# Altium integrated library Power.IntLib: 27 symbols
Pins are listed as number, name and electrical type; pins without a type are passive.

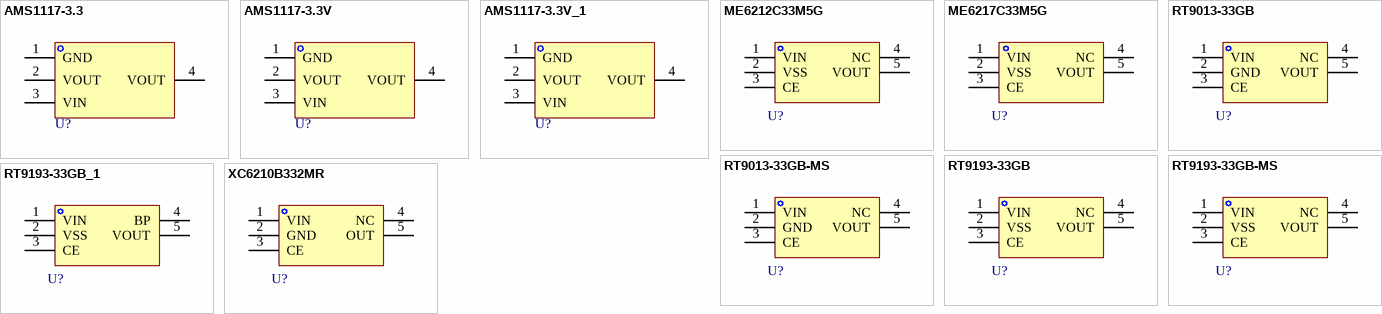
[diagram p0: symbols AMS1117-3.3 to XC6210B332MR]

## AMS1117-3.3
designator U?  (value not drawn)
AMS AMS1117 LDO SOT223封装 输出3.3V; 输出类型: 固定; 工作电压: 16V; 输出电压: 3.3V; 输出电流: 1A; 工作温度: -40℃~+125℃; 封装: SOT-223; 压差: 1.1V@(800mA); ComponentLink1Description: Datasheet; ComponentLink1URL: http://www.advanced-monolithic.com/pdf/ds1117.pdf; 制造商: AMS; 类别: LDO; 子类别: -
footprint AMS1117-SOT223 (SOT223, 4-Leads, Body 6.51x7.00mm (avg), Pitch 2.29mm, IPC Medium Density)
pins: 1 GND (power), 2 VOUT, 3 VIN (power), 4 VOUT

## AMS1117-3.3V
designator U?  (value not drawn)
JSMSEMI(杰盛微) AMS1117 LDO SOT223封装 输出3.3V; 输出类型: 固定; 工作电压: 15V; 输出电压: 3.3V; 输出电流: 1.2A; 工作温度: -40℃~+125℃; 封装: SOT-223; 压差: 1.5V@(800mA); ComponentLink1Description: Datasheet; ComponentLink1URL: http://www.advanced-monolithic.com/pdf/ds1117.pdf; 制造商: JSMSEMI(杰盛微); 类别: LDO; 子类别: -
footprint JSMSEMI-SOT223 (SOT223, 4-Leads, Body 6.30x6.95mm (avg), Pitch 2.30mm, IPC Medium Density)
pins: 1 GND (power), 2 VOUT, 3 VIN (power), 4 VOUT

## AMS1117-3.3V_1
designator U?, comment AMS1117-3.3V  (value not drawn)
MSKSEMI(美森科) AMS1117 LDO SOT223封装 输出3.3V; 输出类型: 固定; 工作电压: 12V; 输出电压: 3.3V; 输出电流: 1A; 工作温度: -40℃~+125℃; 封装: SOT-223; 压差: 1.4V@(1A); ComponentLink1Description: Datasheet; ComponentLink1URL: http://www.advanced-monolithic.com/pdf/ds1117.pdf; 制造商: MSKSEMI(美森科); 类别: LDO; 子类别: -
footprint MSKSEM-SOT223 (MSKSEMI(美森科) SOT223 推荐封装)
pins: 1 GND (power), 2 VOUT, 3 VIN (power), 4 VOUT

## ME6212C33M5G
designator U?  (value not drawn)
MICRONE(南京微盟) ME6212 LDO SOT235封装 输出3.3V; 输出类型: 固定; 工作电压: 6V; 输出电压: 3.3V; 输出电流: 350mA; 工作温度: -40℃~+150℃; 封装: SOT-23-5; 压差: 260mV@(200mA); 制造商: MICRONE(南京微盟); 类别: LDO; 子类别: -
footprint MICRONE-SOT235
pins: 1 VIN, 2 VSS, 3 CE, 4 NC, 5 VOUT

## ME6217C33M5G
designator U?  (value not drawn)
MICRONE(南京微盟) ME6217 LDO SOT235封装 输出3.3V; 输出类型: 固定; 工作电压: 7V; 输出电压: 3.3V; 输出电流: 800mA; 工作温度: -40℃~+85℃; 封装: SOT-23-5; 压差: 180mV@(300mA); 制造商: MICRONE(南京微盟); 类别: LDO; 子类别: -
footprint MICRONE-SOT235
pins: 1 VIN, 2 VSS, 3 CE, 4 NC, 5 VOUT

## RT9013-33GB
designator U?  (value not drawn)
TECH PUBLIC(台舟) RT9013-33GB LDO SOT235封装 输出3.3V; 输出类型: 固定; 工作电压: 7V; 输出电压: 3.3V; 输出电流: 500mA; 工作温度: -25℃~+85℃@(Ta); 封装: SOT-23-5; 压差: 300mV@(200mA); 制造商: TECH PUBLIC(台舟); 类别: LDO; 子类别: -
footprint TECHPUBLIC-SOT235 (SOT23, 5-Leads, Body 2.92x2.80mm, Pitch 0.95mm, IPC Medium Density)
pins: 1 VIN, 2 GND, 3 CE, 4 NC, 5 VOUT

## RT9013-33GB-MS
designator U?  (value not drawn)
MSKSEMI(美森科) 输出类型：固定 输出极性：正 最大输入电压：5.5V 输出电压：3.3V 输出电流：500mA 电源纹波抑制比(PSRR)：75dB@(1kHz)后面-MS代表品牌; 输出类型: 固定; 工作电压: 5.5V; 输出电压: 3.3V; 输出电流: 500mA; 工作温度: -25℃~+85℃@(Ta); 封装: SOT-23-5; 类别: LDO; 压差: 100mV@(100mA)；300mV@(200mA); 制造商: MSKSEMI(美森科); 子类别: -
footprint MSKSEMI-SOT-23-5 (MSKSEMI(美森科) SOT235 推荐fengzhuang)
pins: 1 VIN, 2 GND, 3 CE, 4 NC, 5 VOUT

## RT9193-33GB
designator U?  (value not drawn)
TECH PUBLIC(台舟) RT9193-33GB LDO SOT235封装 输出3.3V; 输出类型: 固定; 工作电压: 6V; 输出电压: 3.3V; 输出电流: 300mA; 工作温度: -25℃~+85℃@(Ta); 封装: SOT-23-5; 压差: 230mV@(200mA); 制造商: TECH PUBLIC(台舟); 类别: LDO; 子类别: -
footprint TECHPUBLIC-SOT235 (SOT23, 5-Leads, Body 2.92x2.80mm, Pitch 0.95mm, IPC Medium Density)
pins: 1 VIN, 2 VSS, 3 CE, 4 NC, 5 VOUT

## RT9193-33GB-MS
designator U?  (value not drawn)
MSKSEMI(美森科) RT9193-33GB LDO SOT235封装 输出3.3V; 输出类型: 固定; 工作电压: 5.5V; 输出电压: 3.3V; 输出电流: 500mA; 工作温度: -25℃~+85℃@(Ta); 封装: SOT-23-5; 压差: 300mV@(200mA); 制造商: MSKSEMI(美森科); 类别: LDO; 子类别: -
footprint MSKSEMI-SOT-23-5 (MSKSEMI(美森科) SOT235 推荐fengzhuang)
pins: 1 VIN, 2 VSS, 3 CE, 4 NC, 5 VOUT

## RT9193-33GB_1
designator U?, comment RT9193-33GB  (value not drawn)
RICHTEK(立锜) RT9193-33GB LDO SOT235封装 输出3.3V; 输出类型: 固定; 工作电压: 5.5V; 输出电压: 3.3V; 输出电流: 300mA; 工作温度: -40℃~+125℃@(Tj); 制造商: TECH PUBLIC(台舟); 封装: SOT-23-5; 压差: 230mV@(200mA); 类别: LDO; 子类别: -
footprint RICHTEK-SOT235 (RICHTEK(立锜) TSOT-25/TSOT-25(FC)/SOT-25 推荐焊盘)
pins: 1 VIN, 2 VSS, 3 CE, 4 BP "Reference Noise Bypass. This pin can be floating. For lowest noise performance, connect a 22nF capacitor between the BP and GND pins", 5 VOUT

## XC6210B332MR
designator U?  (value not drawn)
TECH PUBLIC(台舟) XC6210B332MR LDO SOT235封装 输出3.3V; 输出类型: 固定; 工作电压: 5.5V; 输出电压: 3.3V; 输出电流: 800mA; 工作温度: -25℃~+85℃@(Ta); 封装: SOT-23-5; 压差: 150mV@(300mA); 制造商: TECH PUBLIC(台舟); 类别: LDO; 子类别: -
footprint TECHPUBLIC-SOT235 (SOT23, 5-Leads, Body 2.92x2.80mm, Pitch 0.95mm, IPC Medium Density)
pins: 1 VIN, 2 GND, 3 CE, 4 NC, 5 OUT


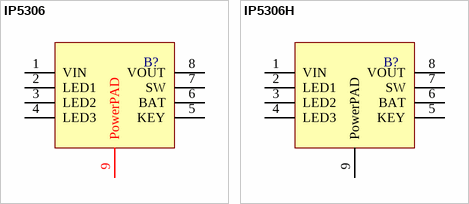
[diagram p1: symbols IP5306 to IP5306H]

## IP5306
designator B?  (value not drawn)
INJOINIC(英集芯) 全集成移动电源系统芯片; 封装: ESOP-8; 类别: 电源管理; 输入电流: 2.1A; 输出电流: 2.4A; 工作电压: 4.65V-5.5V; 工作温度: 0℃-+70℃; 电池数量: 1; 输出电压: 5V; 制造商: INJOINIC(英集芯); 子类别: *; ComponentLink1Description: 数据手册; ComponentLink1URL: https://www.injoinic.com/api//static/uploads/20250528/20250528180813_6836e08d3eb50.pdf
footprint INJOINIC-ESOP-8 (SOP, 8-Leads, Body 4.90x3.90mm, Pitch 1.27mm, Thermal Pad 3.10x2.21mm, IPC Medium Density)
pins: 1 VIN, 2 LED1, 3 LED2, 4 LED3, 5 KEY, 6 BAT, 7 SW, 8 VOUT, 9 PowerPAD 

## IP5306H
designator B?  (value not drawn)
INJOINIC(英集芯) 全集成移动电源系统芯片输入可耐压12V; 封装: ESOP-8; 类别: 电源管理; 输入电流: 2.1A; 输出电流: 2.4A; 工作电压: 4.65V-5.5V; 工作温度: 0℃-+70℃; 电池数量: 1; 输出电压: 5V; 制造商: INJOINIC(英集芯); 子类别: *; ComponentLink1Description: 数据手册; ComponentLink1URL: https://www.injoinic.com/api//static/uploads/20250528/20250528180752_6836e0782ebea.pdf
footprint INJOINIC-ESOP-8 (SOP, 8-Leads, Body 4.90x3.90mm, Pitch 1.27mm, Thermal Pad 3.10x2.21mm, IPC Medium Density)
pins: 1 VIN, 2 LED1, 3 LED2, 4 LED3, 5 KEY, 6 BAT, 7 SW, 8 VOUT, 9 PowerPAD 


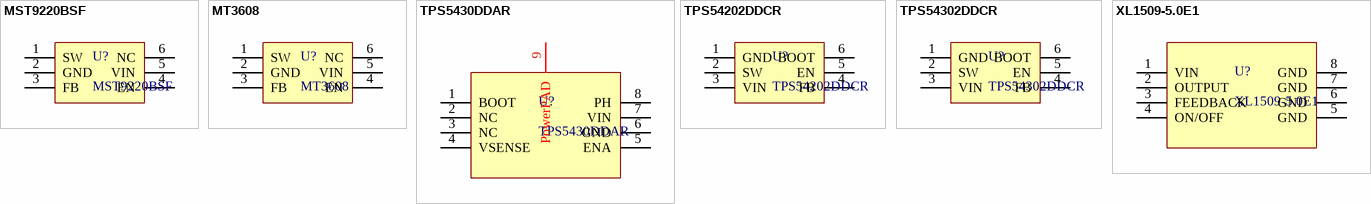
[diagram p2: symbols MST9220BSF to XL1509-5.0E1]

## MST9220BSF
designator U?
MST(迈尔斯通) 1.2MHz 2A 输出电流升压转换器; 封装: SOT-23-6; 类别: DCDC; 子类别: 升压DCDC; 工作电压: 2.5V~6V; 输出电压: 2.5V~10V; 工作温度: -40℃~+85℃; 制造商: MST(迈尔斯通); 输出电流: 2A; 开关频率: 1.2MHz; ComponentLink1Description: 数据据手册; ComponentLink1URL: https://www.mst-ic.com/upload/cn/propdf/MST9220BSF.pdf
footprint MST-SOT236 (SOT23, 6-Leads, Body 2.95x2.80mm, Pitch 0.95mm, IPC Medium Density)
pins: 1 SW, 2 GND, 3 FB, 4 EN, 5 VIN, 6 NC

## MT3608
designator U?
西安航天民芯 老版本 高效1.2MHz 2A升压转换器; 封装: SOT-23-6; 类别: DCDC; 子类别: 升压DCDC; 工作电压: 2V~24V; 输出电流: 2A; 开关频率: 1.2MHz; 工作温度: -40℃~+85℃; 制造商: 西安航天民芯; 输出电压: -; ComponentLink1Description: 数据据手册; ComponentLink1URL: https://www.mst-ic.com/upload/cn/propdf/MST9220BSF.pdf
footprint XAHTMK-SOT236 (西安航天民芯 SOT236 推荐焊盘)
pins: 1 SW, 2 GND, 3 FB, 4 EN, 5 VIN, 6 NC

## TPS5430DDAR
designator U?
TI(德州仪器) 宽输入范围、3A输出电流的降压转换器; 封装: SOIC-8-EP; 类别: DCDC; 子类别: 降压DCDC; 工作电压: 5.5V~36V; 输出电压: 1.221V~32.04V; 输出电流: 3A; 开关频率: 500kHz; 工作温度: -40℃~+125℃@(TJ); 制造商: TI(德州仪器); ComponentLink1Description: 数据据手册; ComponentLink1URL: https://www.ti.com.cn/cn/lit/gpn/TPS5430
footprint TI-SOIC-8-EP (TI(德州仪器) SOIC-8-EP 推荐焊盘 0.125mm钢网)
pins: 1 BOOT, 2 NC, 3 NC, 4 VSENSE, 5 ENA, 6 GND, 7 VIN, 8 PH, 9 PowerPAD

## TPS54202DDCR
designator U?
TI(德州仪器) 4.5V至28V输入、2A输出、低EMI同步降压转换器; 封装: SOT-23-6; 类别: DCDC; 子类别: 降压DCDC; 工作电压: 4.5V~28V; 输出电压: –0.1V~28V; 输出电流: 2A; 开关频率: 500kHz; 工作温度: -40℃~+125℃@(TJ); 制造商: TI(德州仪器); ComponentLink1Description: 数据据手册; ComponentLink1URL: https://www.mst-ic.com/upload/cn/propdf/MST9220BSF.pdf
footprint TI-TSOP23-6
pins: 1 GND, 2 SW, 3 VIN, 4 FB, 5 EN, 6 BOOT

## TPS54302DDCR
designator U?
TI(德州仪器) 4.5V至28V输入、3A输出、EMI友好的同步降压转换器; 封装: SOT-23-6; 类别: DCDC; 子类别: 降压DCDC; 工作电压: 4.5V~28V; 输出电压: –0.1V~28V; 输出电流: 3A; 开关频率: 400kHz; 工作温度: -40℃~+125℃@(TJ); 制造商: TI(德州仪器); ComponentLink1Description: 数据据手册; ComponentLink1URL: https://www.mst-ic.com/upload/cn/propdf/MST9220BSF.pdf
footprint TI-TSOP23-6
pins: 1 GND, 2 SW, 3 VIN, 4 FB, 5 EN, 6 BOOT

## XL1509-5.0E1
designator U?
XLSEMI(芯龙) DCDC降压，电源输入30V以上，1A~3A(中电流)方案，; 封装: SOIC-8; 类别: DCDC; 子类别: 降压DCDC; 工作电压: 4.5V~40V; 输出电压: 5V; 输出电流: 2A; 开关频率: 150kHz; 工作温度: -40℃~+85℃; 制造商: XLSEMI(芯龙); ComponentLink1Description: 数据据手册; ComponentLink1URL: https://www.ti.com.cn/cn/lit/gpn/TPS5430
footprint XLSEMI-SOIC8 (SOP, 8-Leads, Body 4.90x3.90mm, Pitch 1.27mm, IPC Medium Density)
pins: 1 VIN, 2 OUTPUT, 3 FEEDBACK, 4 ON/OFF, 5 GND, 6 GND, 7 GND, 8 GND


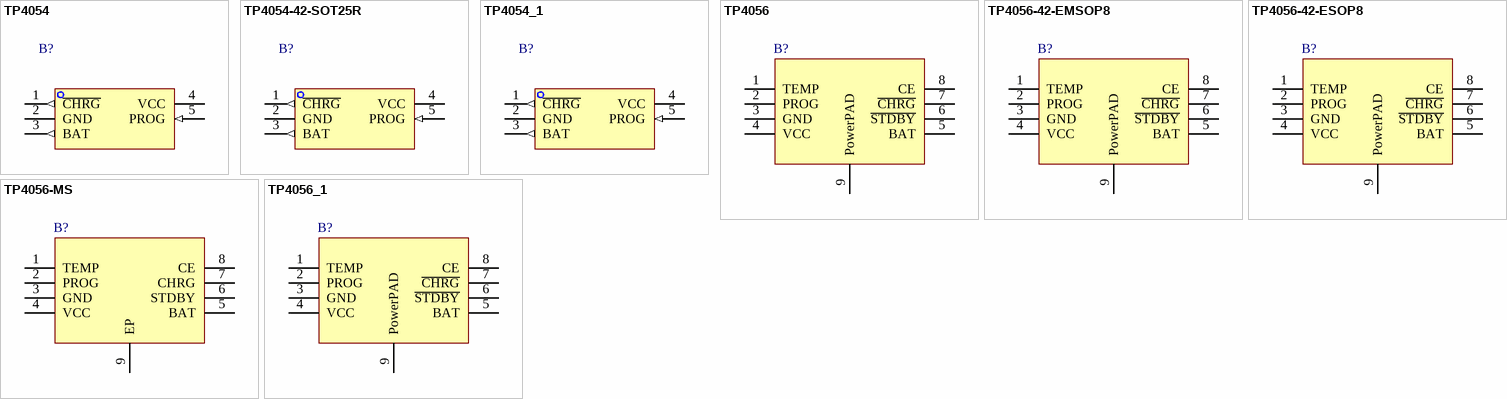
[diagram p3: symbols TP4054 to TP4056_1]

## TP4054
designator B?  (value not drawn)
UMW(友台半导体) 1A 线性锂离子电池充电器 SOT-23-5; 类别: 充电管理; 子类别: 锂离子/聚合物电池充电管理; 工作电压: 4.2V~6.5V; 输出电流: 500mA; 电池数量: 1; 工作温度: -40℃~+85℃; 制造商: UMW(友台半导体); 封装: SOT-23-5; ComponentLink1Description: 数据手册; ComponentLink1URL: https://www.umw-ic.com/static/pdf/46c15f53afcf69d99cf4bf3c625c6952.pdf
footprint SOT23-5L_UMW
pins: 1 ~{CHRG} (out), 2 GND, 3 BAT (out), 4 VCC, 5 PROG (in)

## TP4054-42-SOT25R
designator B?  (value not drawn)
TOPPOWER(南京拓微) 1A 线性锂离子电池充电器 SOT-23-5; 类别: 充电管理; 子类别: 锂离子/聚合物电池充电管理; 工作电压: 4V~9V; 输出电流: 800mA; 电池数量: 1; 工作温度: -40℃~+85℃; 制造商: TOPPOWER(南京拓微); 封装: SOT-23-5; ComponentLink1Description: 数据手册; ComponentLink1URL: http://www.tp-asic.com/res/tp-asic/pdres/201203/tp4054_42.pdf
footprint TOPPOWER-TP4054-42-SOT25R
pins: 1 ~{CHRG} (out), 2 GND, 3 BAT (out), 4 VCC, 5 PROG (in)

## TP4054_1
designator B?, comment TP4054  (value not drawn)
SMSEMI(杰盛微) 1A 线性锂离子电池充电器 SOT-23-5; 类别: 充电管理; 子类别: 锂离子/聚合物电池充电管理; 工作电压: 4.5V~5.5V; 输出电流: 535mA; 电池数量: 1; 工作温度: -40℃~+85℃; 制造商: SMSEMI(杰盛微); 封装: SOT-23-5; ComponentLink1Description: 数据手册; ComponentLink1URL: http://www.tp-asic.com/res/tp-asic/pdres/201203/tp4054_42.pdf
pins: 1 ~{CHRG} (out), 2 GND, 3 BAT (out), 4 VCC, 5 PROG (in)

## TP4056
designator B?  (value not drawn)
TPOWER(天源) 1A 线性锂离子电池充电器 ESOP-8; 类别: 充电管理; 子类别: 锂离子/聚合物电池充电管理; 工作电压: 4V~6V; 电池数量: 1; 工作温度: -40℃~+85℃; 制造商: TPOWER(天源); 封装: ESOP-8; 输出电流: 1A; ComponentLink1Description: 数据手册; ComponentLink1URL: http://www.tp-asic.com/res/tp-asic/pdres/202206/TP4056_42.pdf
footprint TPOWER-TP4056-ESOP8 (SOP, 8-Leads, Body 4.90x3.90mm, Pitch 1.27mm, Thermal Pad 3.41x2.52mm, IPC Medium Density)
pins: 1 TEMP, 2 PROG, 3 GND, 4 VCC, 5 BAT, 6 ~{STDBY}, 7 ~{CHRG}, 8 CE, 9 PowerPAD

## TP4056-42-EMSOP8
designator B?, comment TP4056-42-ESOP8  (value not drawn)
TOPPOWER(南京拓微) 1A 线性锂离子电池充电器 EMSOP-8; 类别: 充电管理; 子类别: 锂离子/聚合物电池充电管理; 工作电压: 4V~8V; 电池数量: 1; 工作温度: -40℃~+85℃; 制造商: TOPPOWER(南京拓微); 封装: EMSOP-8; 输出电流: 1A; ComponentLink1Description: 数据手册; ComponentLink1URL: http://www.tp-asic.com/res/tp-asic/pdres/202206/TP4056_42.pdf
footprint TOPPOWER-TP4056-42-ESOP8 (SOIC127P600X175-9N)
pins: 1 TEMP, 2 PROG, 3 GND, 4 VCC, 5 BAT, 6 ~{STDBY}, 7 ~{CHRG}, 8 CE, 9 PowerPAD

## TP4056-42-ESOP8
designator B?  (value not drawn)
TOPPOWER(南京拓微) 1A 线性锂离子电池充电器 ESOP-8; 类别: 充电管理; 子类别: 锂离子/聚合物电池充电管理; 工作电压: 4V~8V; 电池数量: 1; 工作温度: -40℃~+85℃; 制造商: TOPPOWER(南京拓微); 封装: ESOP-8; 输出电流: 1A; ComponentLink1Description: 数据手册; ComponentLink1URL: http://www.tp-asic.com/res/tp-asic/pdres/202206/TP4056_42.pdf
footprint TOPPOWER-TP4056-42-ESOP8 (SOIC127P600X175-9N)
pins: 1 TEMP, 2 PROG, 3 GND, 4 VCC, 5 BAT, 6 ~{STDBY}, 7 ~{CHRG}, 8 CE, 9 PowerPAD

## TP4056-MS
designator B?  (value not drawn)
MSKSEMI(美森科) 1A 线性锂离子电池充电器 ESOP-8; 类别: 充电管理; 子类别: 锂离子/聚合物电池充电管理; 工作电压: 4.2V~9V; 电池数量: 1; 工作温度: -40℃~+85℃; 制造商: MSKSEMI(美森科); 封装: ESOP-8; 输出电流: 1A; ComponentLink1Description: 数据手册; ComponentLink1URL: http://www.tp-asic.com/res/tp-asic/pdres/202206/TP4056_42.pdf
footprint MSKSEMI-SOP-8
pins: 1 TEMP, 2 PROG, 3 GND, 4 VCC, 5 BAT, 6 STDBY, 7 CHRG, 8 CE, 9 EP

## TP4056_1
designator B?, comment TP4056  (value not drawn)
UMW(友台半导体) 1A 线性锂离子电池充电器 ESOP-8; 类别: 充电管理; 子类别: 锂离子/聚合物电池充电管理; 工作电压: 3.7V~6.5V; 电池数量: 1; 工作温度: -40℃~+85℃; 制造商: UMW(友台半导体); 封装: ESOP-8; 输出电流: 1A; ComponentLink1Description: 数据手册; ComponentLink1URL: http://www.tp-asic.com/res/tp-asic/pdres/202206/TP4056_42.pdf
footprint UMW-TP4056-ESOP8 (TSOP, 8-Leads, Body 4.90x3.90mm, Pitch 1.27mm, Thermal Pad 3.50x3.40mm, IPC Medium Density)
pins: 1 TEMP, 2 PROG, 3 GND, 4 VCC, 5 BAT, 6 ~{STDBY}, 7 ~{CHRG}, 8 CE, 9 PowerPAD